# Altium schematic symbol library DRV8870.SchLib: 1 symbol
Pins are listed as number, name and electrical type; pins without a type are passive.

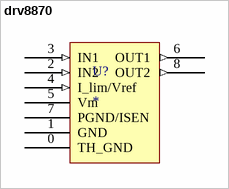
[diagram p0: symbol drv8870]

## drv8870
designator U?
footprint DRV8p
pins: 0 TH_GND, 1 GND (power), 2 IN2 (in), 3 IN1 (in), 4 I_lim/Vref (in), 5 Vm (power), 6 OUT1 (out), 7 PGND/ISEN (power), 8 OUT2 (out)